# EAGLE library part CONN_FFC_1X30_SH (library GPLIB_CONN)
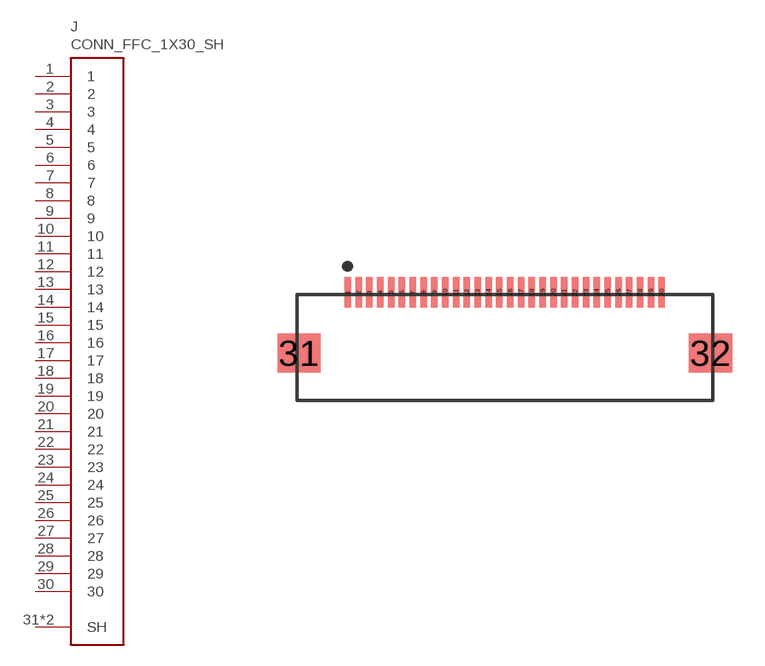
[diagram p46: symbol with the pads of CONN_FFC_1X30_0.5MM_SM_RA_FPC30-T1T1-2021-A; footprint CONN_FFC_1X30_0.5MM_SM_RA_FPC30-T1T1-2021-A]

Designator prefix J

## CONN_FFC_1X30_SH_0.5MM_SM_RA_X  [CONN_FFC_1X30_0.5MM_SM_RA_FPC30-T1T1-2021-A]
1  1  pas
2  2  pas
3  3  pas
4  4  pas
5  5  pas
6  6  pas
7  7  pas
8  8  pas
9  9  pas
10  10  pas
11  11  pas
12  12  pas
13  13  pas
14  14  pas
15  15  pas
16  16  pas
17  17  pas
18  18  pas
19  19  pas
20  20  pas
21  21  pas
22  22  pas
23  23  pas
24  24  pas
25  25  pas
26  26  pas
27  27  pas
28  28  pas
29  29  pas
30  30  pas
31  SH  pas
32  SH  pas

## Footprint CONN_FFC_1X30_0.5MM_SM_RA_FPC30-T1T1-2021-A (pad centres in mm)
smd 0.3 x 1.4: 1 -7.25,2.55; 2 -6.75,2.55; 3 -6.25,2.55; 4 -5.75,2.55; 5 -5.25,2.55; 6 -4.75,2.55; 7 -4.25,2.55; 8 -3.75,2.55; 9 -3.25,2.55; 10 -2.75,2.55; 11 -2.25,2.55; 12 -1.75,2.55; 13 -1.25,2.55; 14 -0.75,2.55; 15 -0.25,2.55; 16 0.25,2.55; 17 0.75,2.55; 18 1.25,2.55; 19 1.75,2.55; 20 2.25,2.55; 21 2.75,2.55; 22 3.25,2.55; 23 3.75,2.55; 24 4.25,2.55; 25 4.75,2.55; 26 5.25,2.55; 27 5.75,2.55; 28 6.25,2.55; 29 6.75,2.55; 30 7.25,2.55
smd 2 x 1.8: 31 -9.5,-0.25; 32 9.5,-0.25